# EAGLE library part CTX410805 (library Coilcraft)
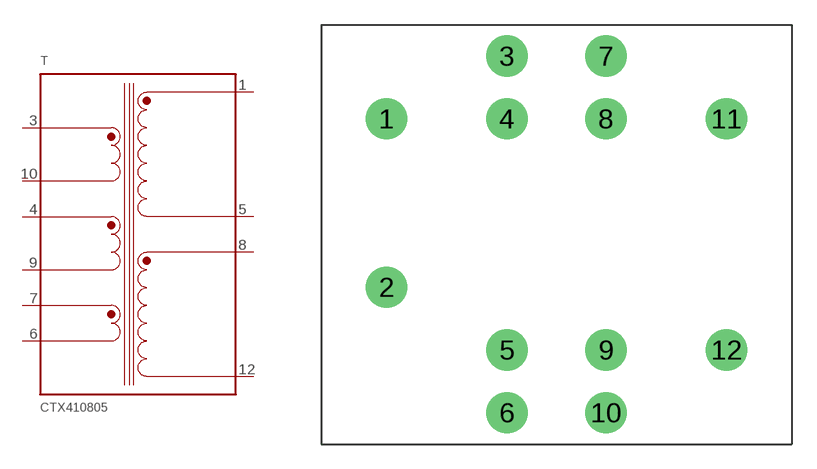
[diagram p0: symbol with the pads of CTX410805; footprint CTX410805]

Designator prefix T

## CTX410805  [CTX410805]
1  1
3  3
4  4
5  5
6  6
7  7
8  8
9  9
10  10
12  12

## Footprint CTX410805 (pad centres in mm)
drill 1.25 pad 2.5: 1 -10.3,7; 2 -10.3,-3.2; 3 -3,10.8; 4 -3,7; 5 -3,-7; 6 -3,-10.8; 7 3,10.8; 8 3,7; 9 3,-7; 10 3,-10.8; 11 10.3,7; 12 10.3,-7